# Altium schematic symbol library Atmel Microcontroller 8-Bit tinyAVR.SchLib: 200 symbols (part 4 of 7)
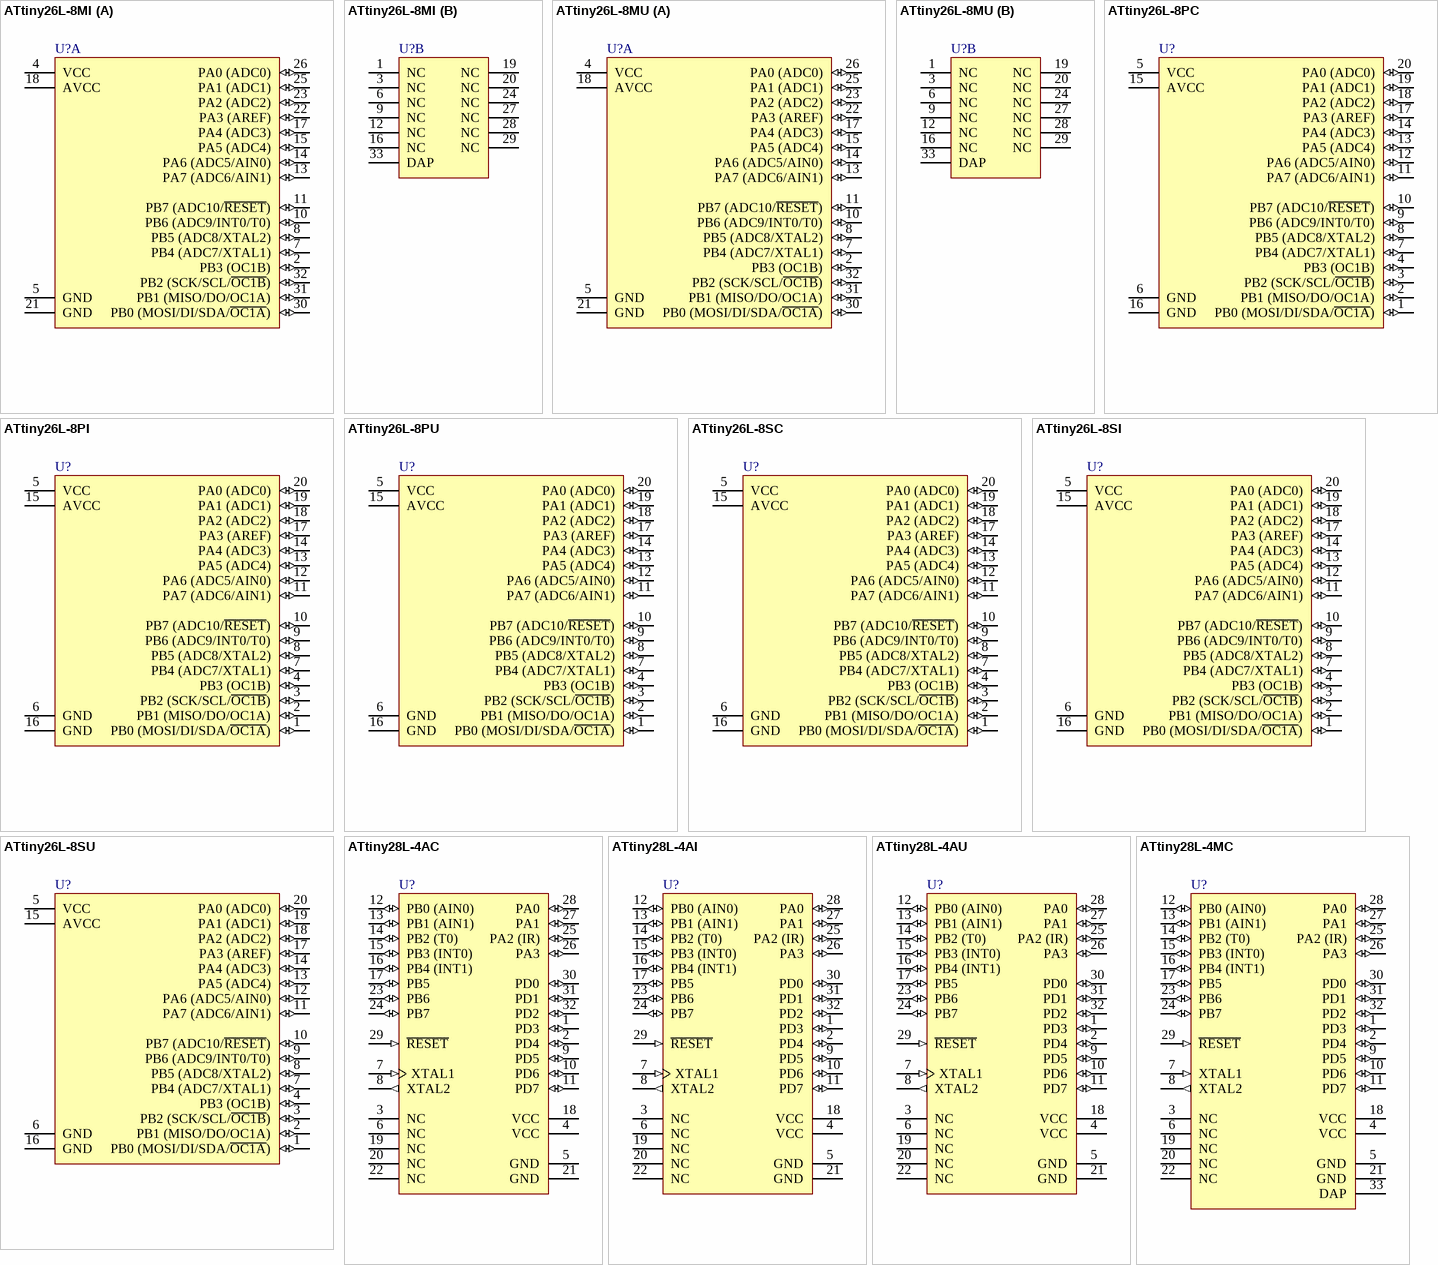
[diagram p16: symbols ATtiny26L-8MI to ATtiny28L-4MC]

## ATtiny26L-8PI
designator U?
8-bit AVR Microcontroller, 2.7-5.5V, 2KB Flash, 128 Bytes EEPROM, 128 Bytes SRAM, 20-pin PDIP, Industrial Grade (-40°C to 85°C); Published: 17-Sep-2003; DatasheetVersion: revJ, Jun-2007; PackageVersion: revC, Jan-2004; PackageReference: 20P3; Publisher: Altium Limited; PackageDescription: 20-lead (0.300"/7.62mm Wide) Plastic Dual Inline Package (PDIP); Supplier 1: Digi-Key; Supplier Part Number 1: ATTINY26L-8PI-ND; Supplier 2: Farnell; Supplier Part Number 2: 4376365; Supplier 3: Mouser; Supplier Part Number 3: 556-ATTINY26L-8PI; Code_JEDEC: MS-001-AD; ComponentLink1Description: Manufacturer Link; ComponentLink1URL: http://www.atmel.com/products/avr/default.asp?; ComponentLink2Description: ATtiny26(L) Datasheet; ComponentLink2URL: http://www.atmel.com/dyn/resources/prod_documents/doc1477.pdf; ComponentLink3Description: ATtiny26(L) Summary; ComponentLink3URL: http://www.atmel.com/dyn/resources/prod_documents/1477S.pdf; ComponentLink4Description: Atmel.com Home; ComponentLink4URL: http://www.atmel.com
footprint 20P3 (DIP, 20-Leads, Row Spacing 7.62mm, Pitch 2.54mm, Body 25.9x6.61mm)
pins: 1 PB0 (MOSI/DI/SDA/~{OC1A}) (io), 2 PB1 (MISO/DO/OC1A) (io), 3 PB2 (SCK/SCL/~{OC1B}) (io), 4 PB3 (OC1B) (io), 5 VCC (power), 6 GND (power), 7 PB4 (ADC7/XTAL1) (io), 8 PB5 (ADC8/XTAL2) (io), 9 PB6 (ADC9/INT0/T0) (io), 10 PB7 (ADC10/~{RESET}) (io), 11 PA7 (ADC6/AIN1) (io), 12 PA6 (ADC5/AIN0) (io), 13 PA5 (ADC4) (io), 14 PA4 (ADC3) (io), 15 AVCC (power), 16 GND (power), 17 PA3 (AREF) (io), 18 PA2 (ADC2) (io), 19 PA1 (ADC1) (io), 20 PA0 (ADC0) (io)

## ATtiny26L-8PU
designator U?
8-bit AVR Microcontroller, 2.7-5.5V, 2KB Flash, 128 Bytes EEPROM, 128 Bytes SRAM, 20-pin PDIP, Industrial Grade (-40°C to 85°C), Pb-Free; Published: 1-Apr-2010; DatasheetVersion: revJ, Jun-2007; PackageVersion: revC, Jan-2004; PackageReference: 20P3; Publisher: Altium Limited; PackageDescription: 20-lead (0.300"/7.62mm Wide) Plastic Dual Inline Package (PDIP); Supplier 1: Digi-Key; Supplier Part Number 1: ATTINY26L-8PU-ND; Supplier 2: Farnell; Supplier Part Number 2: 9171657; Supplier 3: Mouser; Supplier Part Number 3: 556-ATTINY26L-8PU; Code_JEDEC: MS-001-AD; ComponentLink1Description: Manufacturer Link; ComponentLink1URL: http://www.atmel.com/products/avr/default.asp?; ComponentLink2Description: ATtiny26(L) Datasheet; ComponentLink2URL: http://www.atmel.com/dyn/resources/prod_documents/doc1477.pdf; ComponentLink3Description: ATtiny26(L) Summary; ComponentLink3URL: http://www.atmel.com/dyn/resources/prod_documents/1477S.pdf; ComponentLink4Description: Atmel.com Home; ComponentLink4URL: http://www.atmel.com
footprint 20P3 (DIP, 20-Leads, Row Spacing 7.62mm, Pitch 2.54mm, Body 25.9x6.61mm)
pins: 1 PB0 (MOSI/DI/SDA/~{OC1A}) (io), 2 PB1 (MISO/DO/OC1A) (io), 3 PB2 (SCK/SCL/~{OC1B}) (io), 4 PB3 (OC1B) (io), 5 VCC (power), 6 GND (power), 7 PB4 (ADC7/XTAL1) (io), 8 PB5 (ADC8/XTAL2) (io), 9 PB6 (ADC9/INT0/T0) (io), 10 PB7 (ADC10/~{RESET}) (io), 11 PA7 (ADC6/AIN1) (io), 12 PA6 (ADC5/AIN0) (io), 13 PA5 (ADC4) (io), 14 PA4 (ADC3) (io), 15 AVCC (power), 16 GND (power), 17 PA3 (AREF) (io), 18 PA2 (ADC2) (io), 19 PA1 (ADC1) (io), 20 PA0 (ADC0) (io)

## ATtiny26L-8SC
designator U?
8-bit AVR Microcontroller, 2.7-5.5V, 2KB Flash, 128 Bytes EEPROM, 128 Bytes SRAM, 20-pin SOIC, Commercial Grade (0°C to 70°C); Published: 17-Sep-2003; DatasheetVersion: revJ, Jun-2007; PackageVersion: revB, Nov-2006; PackageReference: 20S2; Publisher: Altium Limited; PackageDescription: 20-lead, 0.300" Wide Body, Plastic Gull Wing Small Outline Package (SOIC); Supplier 1: Digi-Key; Supplier Part Number 1: ATTINY26L-8SC-ND; Supplier 2: Mouser; Supplier Part Number 2: 556-ATTINY26L-8SC; Code_JEDEC: MS-013-AC; Code_IPC: SOIC127P1030-20; ComponentLink1Description: Manufacturer Link; ComponentLink1URL: http://www.atmel.com/products/avr/default.asp?; ComponentLink2Description: ATtiny26(L) Datasheet; ComponentLink2URL: http://www.atmel.com/dyn/resources/prod_documents/doc1477.pdf; ComponentLink3Description: ATtiny26(L) Summary; ComponentLink3URL: http://www.atmel.com/dyn/resources/prod_documents/1477S.pdf; ComponentLink4Description: Atmel.com Home; ComponentLink4URL: http://www.atmel.com
footprint 20S2_N (SOIC, 20-Leads, Body 12.8x7.5mm, Pitch 1.27mm, IPC Medium Density)
footprint 20S2_L (SOIC, 20-Leads, Body 12.8x7.5mm, Pitch 1.27mm, IPC High Density)
footprint 20S2_M (SOIC, 20-Leads, Body 12.8x7.5mm, Pitch 1.27mm, IPC Low Density)
pins: 1 PB0 (MOSI/DI/SDA/~{OC1A}) (io), 2 PB1 (MISO/DO/OC1A) (io), 3 PB2 (SCK/SCL/~{OC1B}) (io), 4 PB3 (OC1B) (io), 5 VCC (power), 6 GND (power), 7 PB4 (ADC7/XTAL1) (io), 8 PB5 (ADC8/XTAL2) (io), 9 PB6 (ADC9/INT0/T0) (io), 10 PB7 (ADC10/~{RESET}) (io), 11 PA7 (ADC6/AIN1) (io), 12 PA6 (ADC5/AIN0) (io), 13 PA5 (ADC4) (io), 14 PA4 (ADC3) (io), 15 AVCC (power), 16 GND (power), 17 PA3 (AREF) (io), 18 PA2 (ADC2) (io), 19 PA1 (ADC1) (io), 20 PA0 (ADC0) (io)

## ATtiny26L-8SI
designator U?
8-bit AVR Microcontroller, 2.7-5.5V, 2KB Flash, 128 Bytes EEPROM, 128 Bytes SRAM, 20-pin SOIC, Industrial Grade (-40°C to 85°C); Published: 17-Sep-2003; DatasheetVersion: revJ, Jun-2007; PackageVersion: revB, Nov-2006; PackageReference: 20S2; Publisher: Altium Limited; PackageDescription: 20-lead, 0.300" Wide Body, Plastic Gull Wing Small Outline Package (SOIC); Supplier 1: Digi-Key; Supplier Part Number 1: ATTINY26L-8SI-ND; Supplier 2: Mouser; Supplier Part Number 2: 556-ATTINY26L-8SI; Code_JEDEC: MS-013-AC; Code_IPC: SOIC127P1030-20; ComponentLink1Description: Manufacturer Link; ComponentLink1URL: http://www.atmel.com/products/avr/default.asp?; ComponentLink2Description: ATtiny26(L) Datasheet; ComponentLink2URL: http://www.atmel.com/dyn/resources/prod_documents/doc1477.pdf; ComponentLink3Description: ATtiny26(L) Summary; ComponentLink3URL: http://www.atmel.com/dyn/resources/prod_documents/1477S.pdf; ComponentLink4Description: Atmel.com Home; ComponentLink4URL: http://www.atmel.com
footprint 20S2_N (SOIC, 20-Leads, Body 12.8x7.5mm, Pitch 1.27mm, IPC Medium Density)
footprint 20S2_L (SOIC, 20-Leads, Body 12.8x7.5mm, Pitch 1.27mm, IPC High Density)
footprint 20S2_M (SOIC, 20-Leads, Body 12.8x7.5mm, Pitch 1.27mm, IPC Low Density)
pins: 1 PB0 (MOSI/DI/SDA/~{OC1A}) (io), 2 PB1 (MISO/DO/OC1A) (io), 3 PB2 (SCK/SCL/~{OC1B}) (io), 4 PB3 (OC1B) (io), 5 VCC (power), 6 GND (power), 7 PB4 (ADC7/XTAL1) (io), 8 PB5 (ADC8/XTAL2) (io), 9 PB6 (ADC9/INT0/T0) (io), 10 PB7 (ADC10/~{RESET}) (io), 11 PA7 (ADC6/AIN1) (io), 12 PA6 (ADC5/AIN0) (io), 13 PA5 (ADC4) (io), 14 PA4 (ADC3) (io), 15 AVCC (power), 16 GND (power), 17 PA3 (AREF) (io), 18 PA2 (ADC2) (io), 19 PA1 (ADC1) (io), 20 PA0 (ADC0) (io)

## ATtiny26L-8SU
designator U?
8-bit AVR Microcontroller, 2.7-5.5V, 2KB Flash, 128 Bytes EEPROM, 128 Bytes SRAM, 20-pin SOIC, Industrial Grade (-40°C to 85°C), Pb-Free; Published: 1-Apr-2010; DatasheetVersion: revJ, Jun-2007; PackageVersion: revB, Nov-2006; PackageReference: 20S2; Publisher: Altium Limited; PackageDescription: 20-lead, 0.300" Wide Body, Plastic Gull Wing Small Outline Package (SOIC); Supplier 1: Digi-Key; Supplier Part Number 1: ATTINY26L-8SU-ND; Supplier 2: Farnell; Supplier Part Number 2: 9171665; Supplier 3: Mouser; Supplier Part Number 3: 556-ATTINY26L-8SU; Code_JEDEC: MS-013-AC; Code_IPC: SOIC127P1030-20; ComponentLink1Description: Manufacturer Link; ComponentLink1URL: http://www.atmel.com/products/avr/default.asp?; ComponentLink2Description: ATtiny26(L) Datasheet; ComponentLink2URL: http://www.atmel.com/dyn/resources/prod_documents/doc1477.pdf; ComponentLink3Description: ATtiny26(L) Summary; ComponentLink3URL: http://www.atmel.com/dyn/resources/prod_documents/1477S.pdf; ComponentLink4Description: Atmel.com Home; ComponentLink4URL: http://www.atmel.com
footprint 20S2_N (SOIC, 20-Leads, Body 12.8x7.5mm, Pitch 1.27mm, IPC Medium Density)
footprint 20S2_L (SOIC, 20-Leads, Body 12.8x7.5mm, Pitch 1.27mm, IPC High Density)
footprint 20S2_M (SOIC, 20-Leads, Body 12.8x7.5mm, Pitch 1.27mm, IPC Low Density)
pins: 1 PB0 (MOSI/DI/SDA/~{OC1A}) (io), 2 PB1 (MISO/DO/OC1A) (io), 3 PB2 (SCK/SCL/~{OC1B}) (io), 4 PB3 (OC1B) (io), 5 VCC (power), 6 GND (power), 7 PB4 (ADC7/XTAL1) (io), 8 PB5 (ADC8/XTAL2) (io), 9 PB6 (ADC9/INT0/T0) (io), 10 PB7 (ADC10/~{RESET}) (io), 11 PA7 (ADC6/AIN1) (io), 12 PA6 (ADC5/AIN0) (io), 13 PA5 (ADC4) (io), 14 PA4 (ADC3) (io), 15 AVCC (power), 16 GND (power), 17 PA3 (AREF) (io), 18 PA2 (ADC2) (io), 19 PA1 (ADC1) (io), 20 PA0 (ADC0) (io)

## ATtiny28L-4AC
designator U?
8-bit AVR Microcontroller, 2.7-5.5V, 2KB Flash, 11 GPIO pins, 32-pin TQFP, Commercial Grade (0°C to 70°C); Published: 17-Sep-2003; DatasheetVersion: revF, Jul-2006; PackageVersion: revB, Oct-2001; PackageReference: 32A; Publisher: Altium Limited; PackageDescription: 32-Lead, 7x7x1.0 mm Body, 0.8mm Lead Pitch, Thin Profile Plastic Quad Flat Package (TQFP); Supplier 1: Digi-Key; Supplier Part Number 1: ATTINY28L-4AC-ND; Supplier 2: Mouser; Supplier Part Number 2: 556-ATTINY28L-4AC; Code_JEDEC: MS-026-ABA; ComponentLink1Description: Manufacturer Link; ComponentLink1URL: http://www.atmel.com/products/avr/default.asp?; ComponentLink2Description: ATtiny28L/V Datasheet; ComponentLink2URL: http://www.atmel.com/dyn/resources/prod_documents/doc1062.pdf; ComponentLink3Description: ATtiny28L/V Summary; ComponentLink3URL: http://www.atmel.com/dyn/resources/prod_documents/1062S.pdf; ComponentLink4Description: Atmel.com Home; ComponentLink4URL: http://www.atmel.com
footprint 32A_N (Thin QFP, 32-Leads, Body 7x7mm, Pitch 0.8mm, IPC Medium Density)
footprint 32A_L (Thin QFP, 32-Leads, Body 7x7mm, Pitch 0.8mm, IPC High Density)
footprint 32A_M (Thin QFP, 32-Leads, Body 7x7mm, Pitch 0.8mm, IPC Low Density)
pins: 1 PD3 (io), 2 PD4 (io), 3 NC, 4 VCC (power), 5 GND (power), 6 NC, 7 XTAL1 (in), 8 XTAL2 (out), 9 PD5 (io), 10 PD6 (io), 11 PD7 (io), 12 PB0 (AIN0) (io), 13 PB1 (AIN1) (io), 14 PB2 (T0) (io), 15 PB3 (INT0) (io), 16 PB4 (INT1) (io), 17 PB5 (io), 18 VCC (power), 19 NC, 20 NC, 21 GND (power), 22 NC, 23 PB6 (io), 24 PB7 (io), 25 PA2 (IR) (io), 26 PA3 (io), 27 PA1 (io), 28 PA0 (io), 29 ~{RESET} (in), 30 PD0 (io), 31 PD1 (io), 32 PD2 (io)

## ATtiny28L-4AI
designator U?
8-bit AVR Microcontroller, 2.7-5.5V, 2KB Flash, 11 GPIO pins, 32-pin TQFP, Industrial Grade (-40°C to 85°C); Published: 17-Sep-2003; DatasheetVersion: revF, Jul-2006; PackageVersion: revB, Oct-2001; PackageReference: 32A; Publisher: Altium Limited; PackageDescription: 32-Lead, 7x7x1.0 mm Body, 0.8mm Lead Pitch, Thin Profile Plastic Quad Flat Package (TQFP); Supplier 1: Digi-Key; Supplier Part Number 1: ATTINY28L-4AI-ND; Supplier 2: Mouser; Supplier Part Number 2: 556-ATTINY28L-4AI; Code_JEDEC: MS-026-ABA; ComponentLink1Description: Manufacturer Link; ComponentLink1URL: http://www.atmel.com/products/avr/default.asp?; ComponentLink2Description: ATtiny28L/V Datasheet; ComponentLink2URL: http://www.atmel.com/dyn/resources/prod_documents/doc1062.pdf; ComponentLink3Description: ATtiny28L/V Summary; ComponentLink3URL: http://www.atmel.com/dyn/resources/prod_documents/1062S.pdf; ComponentLink4Description: Atmel.com Home; ComponentLink4URL: http://www.atmel.com
footprint 32A_N (Thin QFP, 32-Leads, Body 7x7mm, Pitch 0.8mm, IPC Medium Density)
footprint 32A_L (Thin QFP, 32-Leads, Body 7x7mm, Pitch 0.8mm, IPC High Density)
footprint 32A_M (Thin QFP, 32-Leads, Body 7x7mm, Pitch 0.8mm, IPC Low Density)
pins: 1 PD3 (io), 2 PD4 (io), 3 NC, 4 VCC (power), 5 GND (power), 6 NC, 7 XTAL1 (in), 8 XTAL2 (out), 9 PD5 (io), 10 PD6 (io), 11 PD7 (io), 12 PB0 (AIN0) (io), 13 PB1 (AIN1) (io), 14 PB2 (T0) (io), 15 PB3 (INT0) (io), 16 PB4 (INT1) (io), 17 PB5 (io), 18 VCC (power), 19 NC, 20 NC, 21 GND (power), 22 NC, 23 PB6 (io), 24 PB7 (io), 25 PA2 (IR) (io), 26 PA3 (io), 27 PA1 (io), 28 PA0 (io), 29 ~{RESET} (in), 30 PD0 (io), 31 PD1 (io), 32 PD2 (io)

## ATtiny28L-4AU
designator U?
8-bit AVR Microcontroller, 2.7-5.5V, 2KB Flash, 11 GPIO pins, 32-pin TQFP, Industrial Grade (-40°C to 85°C), Pb-Free; Published: 1-Apr-2010; DatasheetVersion: revF, Jul-2006; PackageVersion: revB, Oct-2001; PackageReference: 32A; Publisher: Altium Limited; PackageDescription: 32-Lead, 7x7x1.0 mm Body, 0.8mm Lead Pitch, Thin Profile Plastic Quad Flat Package (TQFP); Supplier 1: Digi-Key; Supplier Part Number 1: ATTINY28L-4AU-ND; Supplier 2: Mouser; Supplier Part Number 2: 556-ATTINY28L-4AU; Code_JEDEC: MS-026-ABA; ComponentLink1Description: Manufacturer Link; ComponentLink1URL: http://www.atmel.com/products/avr/default.asp?; ComponentLink2Description: ATtiny28L/V Datasheet; ComponentLink2URL: http://www.atmel.com/dyn/resources/prod_documents/doc1062.pdf; ComponentLink3Description: ATtiny28L/V Summary; ComponentLink3URL: http://www.atmel.com/dyn/resources/prod_documents/1062S.pdf; ComponentLink4Description: Atmel.com Home; ComponentLink4URL: http://www.atmel.com
footprint 32A_N (Thin QFP, 32-Leads, Body 7x7mm, Pitch 0.8mm, IPC Medium Density)
footprint 32A_L (Thin QFP, 32-Leads, Body 7x7mm, Pitch 0.8mm, IPC High Density)
footprint 32A_M (Thin QFP, 32-Leads, Body 7x7mm, Pitch 0.8mm, IPC Low Density)
pins: 1 PD3 (io), 2 PD4 (io), 3 NC, 4 VCC (power), 5 GND (power), 6 NC, 7 XTAL1 (in), 8 XTAL2 (out), 9 PD5 (io), 10 PD6 (io), 11 PD7 (io), 12 PB0 (AIN0) (io), 13 PB1 (AIN1) (io), 14 PB2 (T0) (io), 15 PB3 (INT0) (io), 16 PB4 (INT1) (io), 17 PB5 (io), 18 VCC (power), 19 NC, 20 NC, 21 GND (power), 22 NC, 23 PB6 (io), 24 PB7 (io), 25 PA2 (IR) (io), 26 PA3 (io), 27 PA1 (io), 28 PA0 (io), 29 ~{RESET} (in), 30 PD0 (io), 31 PD1 (io), 32 PD2 (io)

## ATtiny28L-4MC
designator U?
8-bit AVR Microcontroller, 2.7-5.5V, 2KB Flash, 11 GPIO pins, 32-pin MLF, Commercial Grade (0°C to 70°C); Published: 26-May-2004; DatasheetVersion: revF, Jul-2006; PackageVersion: revE, May-2006; PackageReference: 32M1-A; Publisher: Altium Limited; PackageDescription: 32-Pin Micro Lead Frame Package (MLF),  5 x 5 x 1.0 mm Body, Pitch 0.50 mm, 3.10mm Exposed Pad; Supplier 1: Digi-Key; Supplier Part Number 1: ATTINY28L-4MC-ND; Supplier 2: Mouser; Supplier Part Number 2: 556-ATTINY28L-4MC; Code_JEDEC: MO-220-VHHD-2; ComponentLink1Description: Manufacturer Link; ComponentLink1URL: http://www.atmel.com/products/avr/default.asp?; ComponentLink2Description: ATtiny28L/V Datasheet; ComponentLink2URL: http://www.atmel.com/dyn/resources/prod_documents/doc1062.pdf; ComponentLink3Description: ATtiny28L/V Summary; ComponentLink3URL: http://www.atmel.com/dyn/resources/prod_documents/1062S.pdf; ComponentLink4Description: Atmel.com Home; ComponentLink4URL: http://www.atmel.com
footprint 32M1-A_N (QFN, 32-Leads, Body 5x5mm, Pitch 0.5mm, IPC Medium Density)
footprint 32M1-A_L (QFN, 32-Leads, Body 5x5mm, Pitch 0.5mm, IPC High Density)
footprint 32M1-A_M (QFN, 32-Leads, Body 5x5mm, Pitch 0.5mm, IPC Low Density)
pins: 1 PD3 (io), 2 PD4 (io), 3 NC, 4 VCC (power), 5 GND (power), 6 NC, 7 XTAL1 (in), 8 XTAL2 (out), 9 PD5 (io), 10 PD6 (io), 11 PD7 (io), 12 PB0 (AIN0) (io), 13 PB1 (AIN1) (io), 14 PB2 (T0) (io), 15 PB3 (INT0) (io), 16 PB4 (INT1) (io), 17 PB5 (io), 18 VCC (power), 19 NC, 20 NC, 21 GND (power), 22 NC, 23 PB6 (io), 24 PB7 (io), 25 PA2 (IR) (io), 26 PA3 (io), 27 PA1 (io), 28 PA0 (io), 29 ~{RESET} (in), 30 PD0 (io), 31 PD1 (io), 32 PD2 (io), 33 DAP (power)

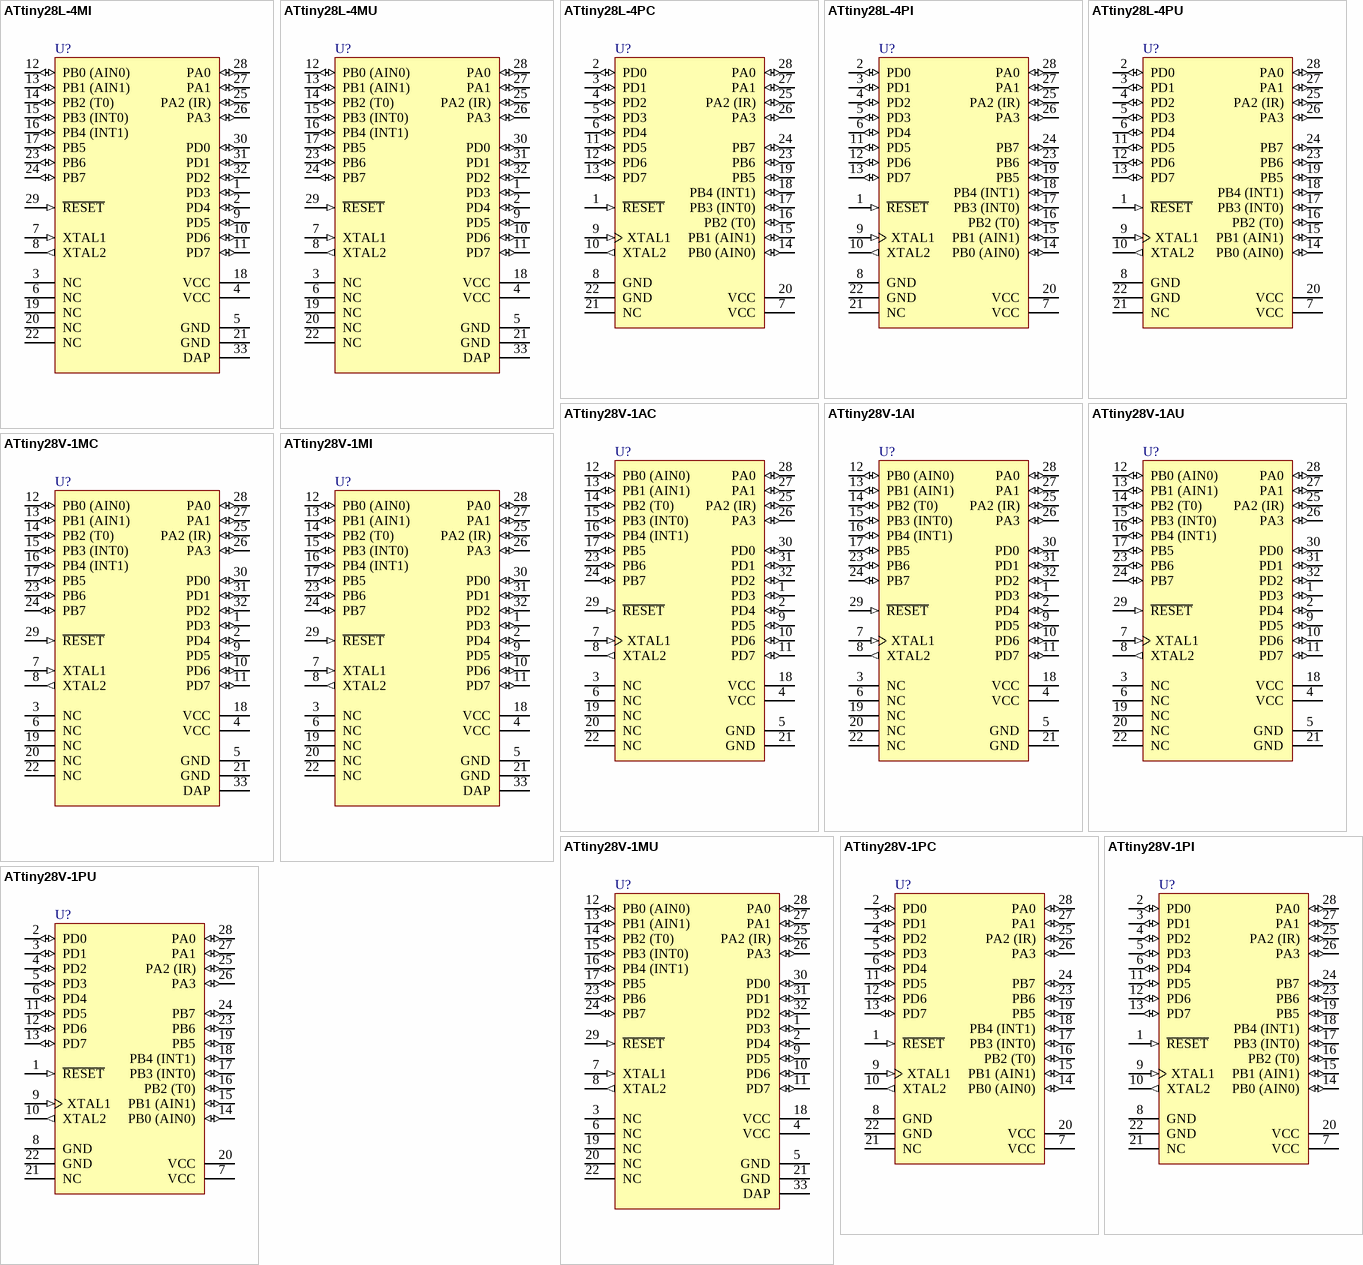
[diagram p6: symbols ATtiny28L-4MI to ATtiny28V-1PU]

## ATtiny28L-4MI
designator U?
8-bit AVR Microcontroller, 2.7-5.5V, 2KB Flash, 11 GPIO pins, 32-pin MLF, Industrial Grade (-40°C to 85°C); Published: 26-May-2004; DatasheetVersion: revF, Jul-2006; PackageVersion: revE, May-2006; PackageReference: 32M1-A; Publisher: Altium Limited; PackageDescription: 32-Pin Micro Lead Frame Package (MLF),  5 x 5 x 1.0 mm Body, Pitch 0.50 mm, 3.10mm Exposed Pad; Supplier 1: Digi-Key; Supplier Part Number 1: ATTINY28L-4MI-ND; Supplier 2: Mouser; Supplier Part Number 2: 556-ATTINY28L-4MI; Code_JEDEC: MO-220-VHHD-2; ComponentLink1Description: Manufacturer Link; ComponentLink1URL: http://www.atmel.com/products/avr/default.asp?; ComponentLink2Description: ATtiny28L/V Datasheet; ComponentLink2URL: http://www.atmel.com/dyn/resources/prod_documents/doc1062.pdf; ComponentLink3Description: ATtiny28L/V Summary; ComponentLink3URL: http://www.atmel.com/dyn/resources/prod_documents/1062S.pdf; ComponentLink4Description: Atmel.com Home; ComponentLink4URL: http://www.atmel.com
footprint 32M1-A_N (QFN, 32-Leads, Body 5x5mm, Pitch 0.5mm, IPC Medium Density)
footprint 32M1-A_L (QFN, 32-Leads, Body 5x5mm, Pitch 0.5mm, IPC High Density)
footprint 32M1-A_M (QFN, 32-Leads, Body 5x5mm, Pitch 0.5mm, IPC Low Density)
pins: 1 PD3 (io), 2 PD4 (io), 3 NC, 4 VCC (power), 5 GND (power), 6 NC, 7 XTAL1 (in), 8 XTAL2 (out), 9 PD5 (io), 10 PD6 (io), 11 PD7 (io), 12 PB0 (AIN0) (io), 13 PB1 (AIN1) (io), 14 PB2 (T0) (io), 15 PB3 (INT0) (io), 16 PB4 (INT1) (io), 17 PB5 (io), 18 VCC (power), 19 NC, 20 NC, 21 GND (power), 22 NC, 23 PB6 (io), 24 PB7 (io), 25 PA2 (IR) (io), 26 PA3 (io), 27 PA1 (io), 28 PA0 (io), 29 ~{RESET} (in), 30 PD0 (io), 31 PD1 (io), 32 PD2 (io), 33 DAP (power)

## ATtiny28L-4MU
designator U?
8-bit AVR Microcontroller, 2.7-5.5V, 2KB Flash, 11 GPIO pins, 32-pin MLF, Industrial Grade (-40°C to 85°C), Pb-Free; Published: 1-Apr-2010; DatasheetVersion: revF, Jul-2006; PackageVersion: revE, May-2006; PackageReference: 32M1-A; Publisher: Altium Limited; PackageDescription: 32-Pin Micro Lead Frame Package (MLF),  5 x 5 x 1.0 mm Body, Pitch 0.50 mm, 3.10mm Exposed Pad; Supplier 1: Digi-Key; Supplier Part Number 1: ATTINY28L-4MU-ND; Supplier 2: Mouser; Supplier Part Number 2: 556-ATTINY28L-4MU; Code_JEDEC: MO-220-VHHD-2; ComponentLink1Description: Manufacturer Link; ComponentLink1URL: http://www.atmel.com/products/avr/default.asp?; ComponentLink2Description: ATtiny28L/V Datasheet; ComponentLink2URL: http://www.atmel.com/dyn/resources/prod_documents/doc1062.pdf; ComponentLink3Description: ATtiny28L/V Summary; ComponentLink3URL: http://www.atmel.com/dyn/resources/prod_documents/1062S.pdf; ComponentLink4Description: Atmel.com Home; ComponentLink4URL: http://www.atmel.com
footprint 32M1-A_N (QFN, 32-Leads, Body 5x5mm, Pitch 0.5mm, IPC Medium Density)
footprint 32M1-A_L (QFN, 32-Leads, Body 5x5mm, Pitch 0.5mm, IPC High Density)
footprint 32M1-A_M (QFN, 32-Leads, Body 5x5mm, Pitch 0.5mm, IPC Low Density)
pins: 1 PD3 (io), 2 PD4 (io), 3 NC, 4 VCC (power), 5 GND (power), 6 NC, 7 XTAL1 (in), 8 XTAL2 (out), 9 PD5 (io), 10 PD6 (io), 11 PD7 (io), 12 PB0 (AIN0) (io), 13 PB1 (AIN1) (io), 14 PB2 (T0) (io), 15 PB3 (INT0) (io), 16 PB4 (INT1) (io), 17 PB5 (io), 18 VCC (power), 19 NC, 20 NC, 21 GND (power), 22 NC, 23 PB6 (io), 24 PB7 (io), 25 PA2 (IR) (io), 26 PA3 (io), 27 PA1 (io), 28 PA0 (io), 29 ~{RESET} (in), 30 PD0 (io), 31 PD1 (io), 32 PD2 (io), 33 DAP (power)

## ATtiny28L-4PC
designator U?
8-bit AVR Microcontroller, 2.7-5.5V, 2KB Flash, 11 GPIO pins, 28-pin PDIP, Commercial Grade (0°C to 70°C); Published: 17-Sep-2003; DatasheetVersion: revF, Jul-2006; PackageVersion: revB, Sep-2001; PackageReference: 28P3; Publisher: Altium Limited; PackageDescription: 28-lead (0.300"/7.62mm Wide) Plastic Dual Inline Package (PDIP); Supplier 1: Digi-Key; Supplier Part Number 1: ATTINY28L-4PC-ND; Supplier 2: Mouser; Supplier Part Number 2: 556-ATTINY28L4PC; ComponentLink1Description: Manufacturer Link; ComponentLink1URL: http://www.atmel.com/products/avr/default.asp?; ComponentLink2Description: ATtiny28L/V Datasheet; ComponentLink2URL: http://www.atmel.com/dyn/resources/prod_documents/doc1062.pdf; ComponentLink3Description: ATtiny28L/V Summary; ComponentLink3URL: http://www.atmel.com/dyn/resources/prod_documents/1062S.pdf; ComponentLink4Description: Atmel.com Home; ComponentLink4URL: http://www.atmel.com
footprint 28P3 (DIP, 28-Leads, Row Spacing 7.62mm, Pitch 2.54mm, Body 34.67x7.3mm)
pins: 1 ~{RESET} (in), 2 PD0 (io), 3 PD1 (io), 4 PD2 (io), 5 PD3 (io), 6 PD4 (io), 7 VCC (power), 8 GND (power), 9 XTAL1 (in), 10 XTAL2 (out), 11 PD5 (io), 12 PD6 (io), 13 PD7 (io), 14 PB0 (AIN0) (io), 15 PB1 (AIN1) (io), 16 PB2 (T0) (io), 17 PB3 (INT0) (io), 18 PB4 (INT1) (io), 19 PB5 (io), 20 VCC (power), 21 NC, 22 GND (power), 23 PB6 (io), 24 PB7 (io), 25 PA2 (IR) (io), 26 PA3 (io), 27 PA1 (io), 28 PA0 (io)

## ATtiny28L-4PI
designator U?
8-bit AVR Microcontroller, 2.7-5.5V, 2KB Flash, 11 GPIO pins, 28-pin PDIP, Industrial Grade (-40°C to 85°C); Published: 17-Sep-2003; DatasheetVersion: revF, Jul-2006; PackageVersion: revB, Sep-2001; PackageReference: 28P3; Publisher: Altium Limited; PackageDescription: 28-lead (0.300"/7.62mm Wide) Plastic Dual Inline Package (PDIP); Supplier 1: Digi-Key; Supplier Part Number 1: ATTINY28L-4PI-ND; Supplier 2: Mouser; Supplier Part Number 2: 556-ATTINY28L-4PI; ComponentLink1Description: Manufacturer Link; ComponentLink1URL: http://www.atmel.com/products/avr/default.asp?; ComponentLink2Description: ATtiny28L/V Datasheet; ComponentLink2URL: http://www.atmel.com/dyn/resources/prod_documents/doc1062.pdf; ComponentLink3Description: ATtiny28L/V Summary; ComponentLink3URL: http://www.atmel.com/dyn/resources/prod_documents/1062S.pdf; ComponentLink4Description: Atmel.com Home; ComponentLink4URL: http://www.atmel.com
footprint 28P3 (DIP, 28-Leads, Row Spacing 7.62mm, Pitch 2.54mm, Body 34.67x7.3mm)
pins: 1 ~{RESET} (in), 2 PD0 (io), 3 PD1 (io), 4 PD2 (io), 5 PD3 (io), 6 PD4 (io), 7 VCC (power), 8 GND (power), 9 XTAL1 (in), 10 XTAL2 (out), 11 PD5 (io), 12 PD6 (io), 13 PD7 (io), 14 PB0 (AIN0) (io), 15 PB1 (AIN1) (io), 16 PB2 (T0) (io), 17 PB3 (INT0) (io), 18 PB4 (INT1) (io), 19 PB5 (io), 20 VCC (power), 21 NC, 22 GND (power), 23 PB6 (io), 24 PB7 (io), 25 PA2 (IR) (io), 26 PA3 (io), 27 PA1 (io), 28 PA0 (io)

## ATtiny28L-4PU
designator U?
8-bit AVR Microcontroller, 2.7-5.5V, 2KB Flash, 11 GPIO pins, 28-pin PDIP, Industrial Grade (-40°C to 85°C), Pb-Free; Published: 1-Apr-2010; DatasheetVersion: revF, Jul-2006; PackageVersion: revB, Sep-2001; PackageReference: 28P3; Publisher: Altium Limited; PackageDescription: 28-lead (0.300"/7.62mm Wide) Plastic Dual Inline Package (PDIP); Supplier 1: Digi-Key; Supplier Part Number 1: ATTINY28L-4PU-ND; Supplier 2: Mouser; Supplier Part Number 2: 556-ATTINY28L-4PU; ComponentLink1Description: Manufacturer Link; ComponentLink1URL: http://www.atmel.com/products/avr/default.asp?; ComponentLink2Description: ATtiny28L/V Datasheet; ComponentLink2URL: http://www.atmel.com/dyn/resources/prod_documents/doc1062.pdf; ComponentLink3Description: ATtiny28L/V Summary; ComponentLink3URL: http://www.atmel.com/dyn/resources/prod_documents/1062S.pdf; ComponentLink4Description: Atmel.com Home; ComponentLink4URL: http://www.atmel.com
footprint 28P3 (DIP, 28-Leads, Row Spacing 7.62mm, Pitch 2.54mm, Body 34.67x7.3mm)
pins: 1 ~{RESET} (in), 2 PD0 (io), 3 PD1 (io), 4 PD2 (io), 5 PD3 (io), 6 PD4 (io), 7 VCC (power), 8 GND (power), 9 XTAL1 (in), 10 XTAL2 (out), 11 PD5 (io), 12 PD6 (io), 13 PD7 (io), 14 PB0 (AIN0) (io), 15 PB1 (AIN1) (io), 16 PB2 (T0) (io), 17 PB3 (INT0) (io), 18 PB4 (INT1) (io), 19 PB5 (io), 20 VCC (power), 21 NC, 22 GND (power), 23 PB6 (io), 24 PB7 (io), 25 PA2 (IR) (io), 26 PA3 (io), 27 PA1 (io), 28 PA0 (io)

## ATtiny28V-1AC
designator U?
8-bit AVR Microcontroller, 1.8-5.5V, 2KB Flash, 11 GPIO pins, 32-pin TQFP, Commercial Grade (0°C to 70°C); Published: 17-Sep-2003; DatasheetVersion: revF, Jul-2006; PackageVersion: revB, Oct-2001; PackageReference: 32A; Publisher: Altium Limited; PackageDescription: 32-Lead, 7x7x1.0 mm Body, 0.8mm Lead Pitch, Thin Profile Plastic Quad Flat Package (TQFP); Supplier 1: Digi-Key; Supplier Part Number 1: ATTINY28V-1AC-ND; Supplier 2: Mouser; Supplier Part Number 2: 556-ATTINY28V-1AC; Code_JEDEC: MS-026-ABA; ComponentLink1Description: Manufacturer Link; ComponentLink1URL: http://www.atmel.com/products/avr/default.asp?; ComponentLink2Description: ATtiny28L/V Datasheet; ComponentLink2URL: http://www.atmel.com/dyn/resources/prod_documents/doc1062.pdf; ComponentLink3Description: ATtiny28L/V Summary; ComponentLink3URL: http://www.atmel.com/dyn/resources/prod_documents/1062S.pdf; ComponentLink4Description: Atmel.com Home; ComponentLink4URL: http://www.atmel.com
footprint 32A_N (Thin QFP, 32-Leads, Body 7x7mm, Pitch 0.8mm, IPC Medium Density)
footprint 32A_L (Thin QFP, 32-Leads, Body 7x7mm, Pitch 0.8mm, IPC High Density)
footprint 32A_M (Thin QFP, 32-Leads, Body 7x7mm, Pitch 0.8mm, IPC Low Density)
pins: 1 PD3 (io), 2 PD4 (io), 3 NC, 4 VCC (power), 5 GND (power), 6 NC, 7 XTAL1 (in), 8 XTAL2 (out), 9 PD5 (io), 10 PD6 (io), 11 PD7 (io), 12 PB0 (AIN0) (io), 13 PB1 (AIN1) (io), 14 PB2 (T0) (io), 15 PB3 (INT0) (io), 16 PB4 (INT1) (io), 17 PB5 (io), 18 VCC (power), 19 NC, 20 NC, 21 GND (power), 22 NC, 23 PB6 (io), 24 PB7 (io), 25 PA2 (IR) (io), 26 PA3 (io), 27 PA1 (io), 28 PA0 (io), 29 ~{RESET} (in), 30 PD0 (io), 31 PD1 (io), 32 PD2 (io)

## ATtiny28V-1AI
designator U?
8-bit AVR Microcontroller, 1.8-5.5V, 2KB Flash, 11 GPIO pins, 32-pin TQFP, Industrial Grade (-40°C to 85°C); Published: 17-Sep-2003; DatasheetVersion: revF, Jul-2006; PackageVersion: revB, Oct-2001; PackageReference: 32A; Publisher: Altium Limited; PackageDescription: 32-Lead, 7x7x1.0 mm Body, 0.8mm Lead Pitch, Thin Profile Plastic Quad Flat Package (TQFP); Supplier 1: Digi-Key; Supplier Part Number 1: ATTINY28V-1AI-ND; Supplier 2: Farnell; Supplier Part Number 2: 4376377; Supplier 3: Mouser; Supplier Part Number 3: 556-ATTINY28V-1AI; Code_JEDEC: MS-026-ABA; ComponentLink1Description: Manufacturer Link; ComponentLink1URL: http://www.atmel.com/products/avr/default.asp?; ComponentLink2Description: ATtiny28L/V Datasheet; ComponentLink2URL: http://www.atmel.com/dyn/resources/prod_documents/doc1062.pdf; ComponentLink3Description: ATtiny28L/V Summary; ComponentLink3URL: http://www.atmel.com/dyn/resources/prod_documents/1062S.pdf; ComponentLink4Description: Atmel.com Home; ComponentLink4URL: http://www.atmel.com
footprint 32A_N (Thin QFP, 32-Leads, Body 7x7mm, Pitch 0.8mm, IPC Medium Density)
footprint 32A_L (Thin QFP, 32-Leads, Body 7x7mm, Pitch 0.8mm, IPC High Density)
footprint 32A_M (Thin QFP, 32-Leads, Body 7x7mm, Pitch 0.8mm, IPC Low Density)
pins: 1 PD3 (io), 2 PD4 (io), 3 NC, 4 VCC (power), 5 GND (power), 6 NC, 7 XTAL1 (in), 8 XTAL2 (out), 9 PD5 (io), 10 PD6 (io), 11 PD7 (io), 12 PB0 (AIN0) (io), 13 PB1 (AIN1) (io), 14 PB2 (T0) (io), 15 PB3 (INT0) (io), 16 PB4 (INT1) (io), 17 PB5 (io), 18 VCC (power), 19 NC, 20 NC, 21 GND (power), 22 NC, 23 PB6 (io), 24 PB7 (io), 25 PA2 (IR) (io), 26 PA3 (io), 27 PA1 (io), 28 PA0 (io), 29 ~{RESET} (in), 30 PD0 (io), 31 PD1 (io), 32 PD2 (io)

## ATtiny28V-1AU
designator U?
8-bit AVR Microcontroller, 1.8-5.5V, 2KB Flash, 11 GPIO pins, 32-pin TQFP, Industrial Grade (-40°C to 85°C), Pb-Free; Published: 1-Apr-2010; DatasheetVersion: revF, Jul-2006; PackageVersion: revB, Oct-2001; PackageReference: 32A; Publisher: Altium Limited; PackageDescription: 32-Lead, 7x7x1.0 mm Body, 0.8mm Lead Pitch, Thin Profile Plastic Quad Flat Package (TQFP); Supplier 1: Digi-Key; Supplier Part Number 1: ATTINY28V-1AU-ND; Supplier 2: Mouser; Supplier Part Number 2: 556-ATTINY28V-1AU; Code_JEDEC: MS-026-ABA; ComponentLink1Description: Manufacturer Link; ComponentLink1URL: http://www.atmel.com/products/avr/default.asp?; ComponentLink2Description: ATtiny28L/V Datasheet; ComponentLink2URL: http://www.atmel.com/dyn/resources/prod_documents/doc1062.pdf; ComponentLink3Description: ATtiny28L/V Summary; ComponentLink3URL: http://www.atmel.com/dyn/resources/prod_documents/1062S.pdf; ComponentLink4Description: Atmel.com Home; ComponentLink4URL: http://www.atmel.com
footprint 32A_N (Thin QFP, 32-Leads, Body 7x7mm, Pitch 0.8mm, IPC Medium Density)
footprint 32A_L (Thin QFP, 32-Leads, Body 7x7mm, Pitch 0.8mm, IPC High Density)
footprint 32A_M (Thin QFP, 32-Leads, Body 7x7mm, Pitch 0.8mm, IPC Low Density)
pins: 1 PD3 (io), 2 PD4 (io), 3 NC, 4 VCC (power), 5 GND (power), 6 NC, 7 XTAL1 (in), 8 XTAL2 (out), 9 PD5 (io), 10 PD6 (io), 11 PD7 (io), 12 PB0 (AIN0) (io), 13 PB1 (AIN1) (io), 14 PB2 (T0) (io), 15 PB3 (INT0) (io), 16 PB4 (INT1) (io), 17 PB5 (io), 18 VCC (power), 19 NC, 20 NC, 21 GND (power), 22 NC, 23 PB6 (io), 24 PB7 (io), 25 PA2 (IR) (io), 26 PA3 (io), 27 PA1 (io), 28 PA0 (io), 29 ~{RESET} (in), 30 PD0 (io), 31 PD1 (io), 32 PD2 (io)

## ATtiny28V-1MC
designator U?
8-bit AVR Microcontroller, 1.8-5.5V, 2KB Flash, 11 GPIO pins, 32-pin MLF, Commercial Grade (0°C to 70°C); Published: 26-May-2004; DatasheetVersion: revF, Jul-2006; PackageVersion: revE, May-2006; PackageReference: 32M1-A; Publisher: Altium Limited; PackageDescription: 32-Pin Micro Lead Frame Package (MLF),  5 x 5 x 1.0 mm Body, Pitch 0.50 mm, 3.10mm Exposed Pad; Supplier 1: Digi-Key; Supplier Part Number 1: ATTINY28V-1MC-ND; Supplier 2: Mouser; Supplier Part Number 2: 556-ATTINY28V-1MC; Code_JEDEC: MO-220-VHHD-2; ComponentLink1Description: Manufacturer Link; ComponentLink1URL: http://www.atmel.com/products/avr/default.asp?; ComponentLink2Description: ATtiny28L/V Datasheet; ComponentLink2URL: http://www.atmel.com/dyn/resources/prod_documents/doc1062.pdf; ComponentLink3Description: ATtiny28L/V Summary; ComponentLink3URL: http://www.atmel.com/dyn/resources/prod_documents/1062S.pdf; ComponentLink4Description: Atmel.com Home; ComponentLink4URL: http://www.atmel.com
footprint 32M1-A_N (QFN, 32-Leads, Body 5x5mm, Pitch 0.5mm, IPC Medium Density)
footprint 32M1-A_L (QFN, 32-Leads, Body 5x5mm, Pitch 0.5mm, IPC High Density)
footprint 32M1-A_M (QFN, 32-Leads, Body 5x5mm, Pitch 0.5mm, IPC Low Density)
pins: 1 PD3 (io), 2 PD4 (io), 3 NC, 4 VCC (power), 5 GND (power), 6 NC, 7 XTAL1 (in), 8 XTAL2 (out), 9 PD5 (io), 10 PD6 (io), 11 PD7 (io), 12 PB0 (AIN0) (io), 13 PB1 (AIN1) (io), 14 PB2 (T0) (io), 15 PB3 (INT0) (io), 16 PB4 (INT1) (io), 17 PB5 (io), 18 VCC (power), 19 NC, 20 NC, 21 GND (power), 22 NC, 23 PB6 (io), 24 PB7 (io), 25 PA2 (IR) (io), 26 PA3 (io), 27 PA1 (io), 28 PA0 (io), 29 ~{RESET} (in), 30 PD0 (io), 31 PD1 (io), 32 PD2 (io), 33 DAP (power)

## ATtiny28V-1MI
designator U?
8-bit AVR Microcontroller, 1.8-5.5V, 2KB Flash, 11 GPIO pins, 32-pin MLF, Industrial Grade (-40°C to 85°C); Published: 26-May-2004; DatasheetVersion: revF, Jul-2006; PackageVersion: revE, May-2006; PackageReference: 32M1-A; Publisher: Altium Limited; PackageDescription: 32-Pin Micro Lead Frame Package (MLF),  5 x 5 x 1.0 mm Body, Pitch 0.50 mm, 3.10mm Exposed Pad; Supplier 1: Digi-Key; Supplier Part Number 1: ATTINY28V-1MI-ND; Supplier 2: Mouser; Supplier Part Number 2: 556-ATTINY28V-1MI; Code_JEDEC: MO-220-VHHD-2; ComponentLink1Description: Manufacturer Link; ComponentLink1URL: http://www.atmel.com/products/avr/default.asp?; ComponentLink2Description: ATtiny28L/V Datasheet; ComponentLink2URL: http://www.atmel.com/dyn/resources/prod_documents/doc1062.pdf; ComponentLink3Description: ATtiny28L/V Summary; ComponentLink3URL: http://www.atmel.com/dyn/resources/prod_documents/1062S.pdf; ComponentLink4Description: Atmel.com Home; ComponentLink4URL: http://www.atmel.com
footprint 32M1-A_N (QFN, 32-Leads, Body 5x5mm, Pitch 0.5mm, IPC Medium Density)
footprint 32M1-A_L (QFN, 32-Leads, Body 5x5mm, Pitch 0.5mm, IPC High Density)
footprint 32M1-A_M (QFN, 32-Leads, Body 5x5mm, Pitch 0.5mm, IPC Low Density)
pins: 1 PD3 (io), 2 PD4 (io), 3 NC, 4 VCC (power), 5 GND (power), 6 NC, 7 XTAL1 (in), 8 XTAL2 (out), 9 PD5 (io), 10 PD6 (io), 11 PD7 (io), 12 PB0 (AIN0) (io), 13 PB1 (AIN1) (io), 14 PB2 (T0) (io), 15 PB3 (INT0) (io), 16 PB4 (INT1) (io), 17 PB5 (io), 18 VCC (power), 19 NC, 20 NC, 21 GND (power), 22 NC, 23 PB6 (io), 24 PB7 (io), 25 PA2 (IR) (io), 26 PA3 (io), 27 PA1 (io), 28 PA0 (io), 29 ~{RESET} (in), 30 PD0 (io), 31 PD1 (io), 32 PD2 (io), 33 DAP (power)

## ATtiny28V-1MU
designator U?
8-bit AVR Microcontroller, 1.8-5.5V, 2KB Flash, 11 GPIO pins, 32-pin MLF, Industrial Grade (-40°C to 85°C), Pb-Free; Published: 1-Apr-2010; DatasheetVersion: revF, Jul-2006; PackageVersion: revE, May-2006; PackageReference: 32M1-A; Publisher: Altium Limited; PackageDescription: 32-Pin Micro Lead Frame Package (MLF),  5 x 5 x 1.0 mm Body, Pitch 0.50 mm, 3.10mm Exposed Pad; Supplier 1: Digi-Key; Supplier Part Number 1: ATTINY28V-1MU-ND; Supplier 2: Mouser; Supplier Part Number 2: 556-ATTINY28V-1MU; Code_JEDEC: MO-220-VHHD-2; ComponentLink1Description: Manufacturer Link; ComponentLink1URL: http://www.atmel.com/products/avr/default.asp?; ComponentLink2Description: ATtiny28L/V Datasheet; ComponentLink2URL: http://www.atmel.com/dyn/resources/prod_documents/doc1062.pdf; ComponentLink3Description: ATtiny28L/V Summary; ComponentLink3URL: http://www.atmel.com/dyn/resources/prod_documents/1062S.pdf; ComponentLink4Description: Atmel.com Home; ComponentLink4URL: http://www.atmel.com
footprint 32M1-A_N (QFN, 32-Leads, Body 5x5mm, Pitch 0.5mm, IPC Medium Density)
footprint 32M1-A_L (QFN, 32-Leads, Body 5x5mm, Pitch 0.5mm, IPC High Density)
footprint 32M1-A_M (QFN, 32-Leads, Body 5x5mm, Pitch 0.5mm, IPC Low Density)
pins: 1 PD3 (io), 2 PD4 (io), 3 NC, 4 VCC (power), 5 GND (power), 6 NC, 7 XTAL1 (in), 8 XTAL2 (out), 9 PD5 (io), 10 PD6 (io), 11 PD7 (io), 12 PB0 (AIN0) (io), 13 PB1 (AIN1) (io), 14 PB2 (T0) (io), 15 PB3 (INT0) (io), 16 PB4 (INT1) (io), 17 PB5 (io), 18 VCC (power), 19 NC, 20 NC, 21 GND (power), 22 NC, 23 PB6 (io), 24 PB7 (io), 25 PA2 (IR) (io), 26 PA3 (io), 27 PA1 (io), 28 PA0 (io), 29 ~{RESET} (in), 30 PD0 (io), 31 PD1 (io), 32 PD2 (io), 33 DAP (power)

## ATtiny28V-1PC
designator U?
8-bit AVR Microcontroller, 1.8-5.5V, 2KB Flash, 11 GPIO pins, 28-pin PDIP, Commercial Grade (0°C to 70°C); Published: 17-Sep-2003; DatasheetVersion: revF, Jul-2006; PackageVersion: revB, Sep-2001; PackageReference: 28P3; Publisher: Altium Limited; PackageDescription: 28-lead (0.300"/7.62mm Wide) Plastic Dual Inline Package (PDIP); Supplier 1: Digi-Key; Supplier Part Number 1: ATTINY28V-1PC-ND; Supplier 2: Mouser; Supplier Part Number 2: 556-ATTINY28V-1PC; ComponentLink1Description: Manufacturer Link; ComponentLink1URL: http://www.atmel.com/products/avr/default.asp?; ComponentLink2Description: ATtiny28L/V Datasheet; ComponentLink2URL: http://www.atmel.com/dyn/resources/prod_documents/doc1062.pdf; ComponentLink3Description: ATtiny28L/V Summary; ComponentLink3URL: http://www.atmel.com/dyn/resources/prod_documents/1062S.pdf; ComponentLink4Description: Atmel.com Home; ComponentLink4URL: http://www.atmel.com
footprint 28P3 (DIP, 28-Leads, Row Spacing 7.62mm, Pitch 2.54mm, Body 34.67x7.3mm)
pins: 1 ~{RESET} (in), 2 PD0 (io), 3 PD1 (io), 4 PD2 (io), 5 PD3 (io), 6 PD4 (io), 7 VCC (power), 8 GND (power), 9 XTAL1 (in), 10 XTAL2 (out), 11 PD5 (io), 12 PD6 (io), 13 PD7 (io), 14 PB0 (AIN0) (io), 15 PB1 (AIN1) (io), 16 PB2 (T0) (io), 17 PB3 (INT0) (io), 18 PB4 (INT1) (io), 19 PB5 (io), 20 VCC (power), 21 NC, 22 GND (power), 23 PB6 (io), 24 PB7 (io), 25 PA2 (IR) (io), 26 PA3 (io), 27 PA1 (io), 28 PA0 (io)

## ATtiny28V-1PI
designator U?
8-bit AVR Microcontroller, 1.8-5.5V, 2KB Flash, 11 GPIO pins, 28-pin PDIP, Industrial Grade (-40°C to 85°C); Published: 17-Sep-2003; DatasheetVersion: revF, Jul-2006; PackageVersion: revB, Sep-2001; PackageReference: 28P3; Publisher: Altium Limited; PackageDescription: 28-lead (0.300"/7.62mm Wide) Plastic Dual Inline Package (PDIP); Supplier 1: Digi-Key; Supplier Part Number 1: ATTINY28V-1PI-ND; Supplier 2: Farnell; Supplier Part Number 2: 4376389; Supplier 3: Mouser; Supplier Part Number 3: 556-ATTINY28V-1PI; ComponentLink1Description: Manufacturer Link; ComponentLink1URL: http://www.atmel.com/products/avr/default.asp?; ComponentLink2Description: ATtiny28L/V Datasheet; ComponentLink2URL: http://www.atmel.com/dyn/resources/prod_documents/doc1062.pdf; ComponentLink3Description: ATtiny28L/V Summary; ComponentLink3URL: http://www.atmel.com/dyn/resources/prod_documents/1062S.pdf; ComponentLink4Description: Atmel.com Home; ComponentLink4URL: http://www.atmel.com
footprint 28P3 (DIP, 28-Leads, Row Spacing 7.62mm, Pitch 2.54mm, Body 34.67x7.3mm)
pins: 1 ~{RESET} (in), 2 PD0 (io), 3 PD1 (io), 4 PD2 (io), 5 PD3 (io), 6 PD4 (io), 7 VCC (power), 8 GND (power), 9 XTAL1 (in), 10 XTAL2 (out), 11 PD5 (io), 12 PD6 (io), 13 PD7 (io), 14 PB0 (AIN0) (io), 15 PB1 (AIN1) (io), 16 PB2 (T0) (io), 17 PB3 (INT0) (io), 18 PB4 (INT1) (io), 19 PB5 (io), 20 VCC (power), 21 NC, 22 GND (power), 23 PB6 (io), 24 PB7 (io), 25 PA2 (IR) (io), 26 PA3 (io), 27 PA1 (io), 28 PA0 (io)

## ATtiny28V-1PU
designator U?
8-bit AVR Microcontroller, 1.8-5.5V, 2KB Flash, 11 GPIO pins, 28-pin PDIP, Industrial Grade (-40°C to 85°C), Pb-Free; Published: 1-Apr-2010; DatasheetVersion: revF, Jul-2006; PackageVersion: revB, Sep-2001; PackageReference: 28P3; Publisher: Altium Limited; PackageDescription: 28-lead (0.300"/7.62mm Wide) Plastic Dual Inline Package (PDIP); Supplier 1: Digi-Key; Supplier Part Number 1: ATTINY28V-1PU-ND; Supplier 2: Mouser; Supplier Part Number 2: 556-ATTINY28V-1PU; ComponentLink1Description: Manufacturer Link; ComponentLink1URL: http://www.atmel.com/products/avr/default.asp?; ComponentLink2Description: ATtiny28L/V Datasheet; ComponentLink2URL: http://www.atmel.com/dyn/resources/prod_documents/doc1062.pdf; ComponentLink3Description: ATtiny28L/V Summary; ComponentLink3URL: http://www.atmel.com/dyn/resources/prod_documents/1062S.pdf; ComponentLink4Description: Atmel.com Home; ComponentLink4URL: http://www.atmel.com
footprint 28P3 (DIP, 28-Leads, Row Spacing 7.62mm, Pitch 2.54mm, Body 34.67x7.3mm)
pins: 1 ~{RESET} (in), 2 PD0 (io), 3 PD1 (io), 4 PD2 (io), 5 PD3 (io), 6 PD4 (io), 7 VCC (power), 8 GND (power), 9 XTAL1 (in), 10 XTAL2 (out), 11 PD5 (io), 12 PD6 (io), 13 PD7 (io), 14 PB0 (AIN0) (io), 15 PB1 (AIN1) (io), 16 PB2 (T0) (io), 17 PB3 (INT0) (io), 18 PB4 (INT1) (io), 19 PB5 (io), 20 VCC (power), 21 NC, 22 GND (power), 23 PB6 (io), 24 PB7 (io), 25 PA2 (IR) (io), 26 PA3 (io), 27 PA1 (io), 28 PA0 (io)

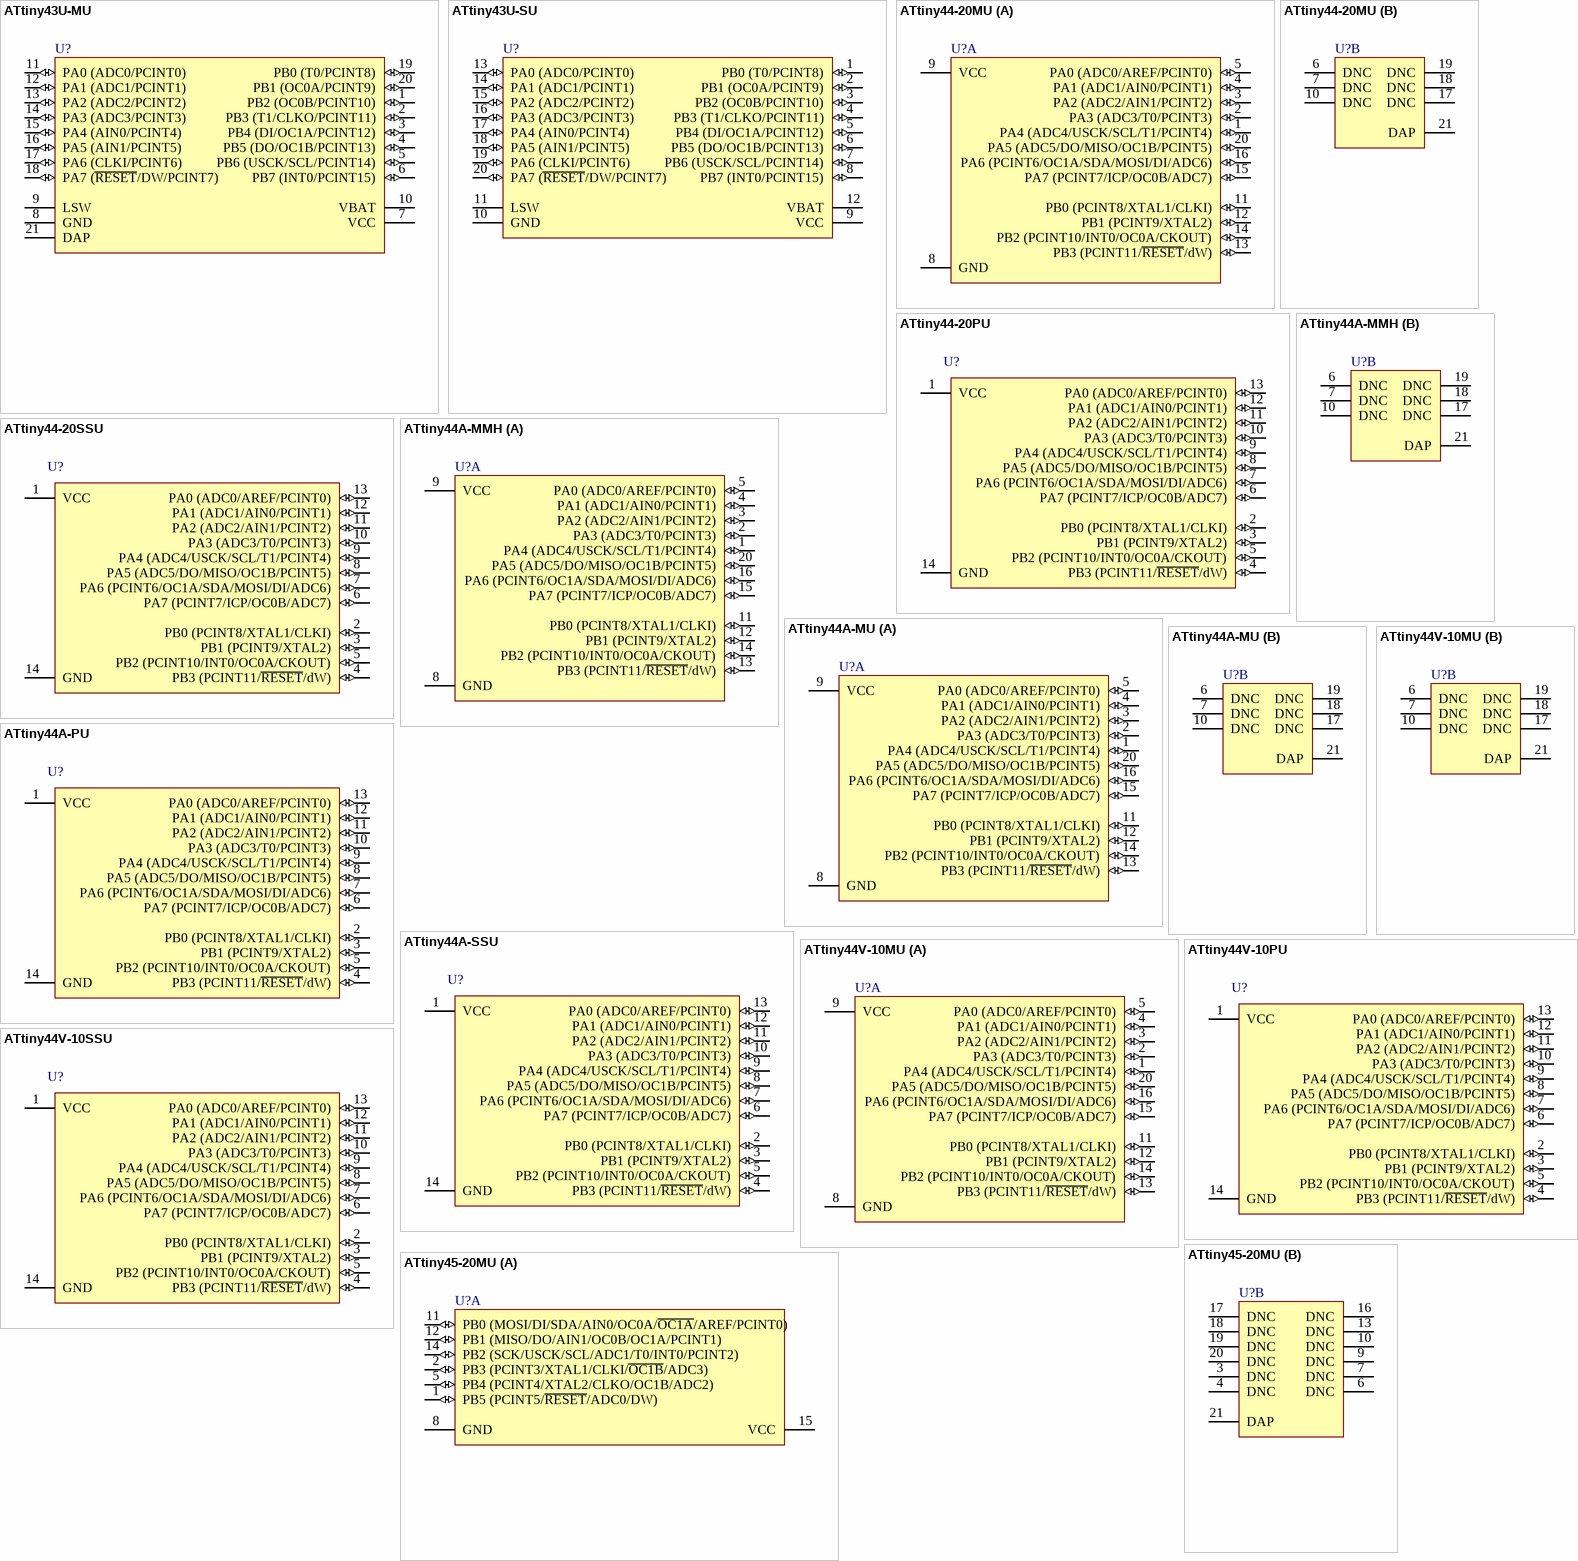
[diagram p7: symbols ATtiny43U-MU to ATtiny45-20MU]

## ATtiny43U-MU
designator U?
8-bit AVR Microcontroller, 1.8-5.5V, 4KB Flash, 64 Bytes EEPROM, 256 Bytes SRAM, 20-pin MLF, Industrial Grade (-40°C to 85°C), Pb-Free; Published: 1-Apr-2010; DatasheetVersion: revB, Mar-2009; PackageVersion: revA, Oct-2004; PackageReference: 20M1; Publisher: Altium Limited; PackageDescription: 20-pad, 4 x 4 x 0.8 mm Body, Lead Pitch 0.50 mm, 2.6 mm Exposed Pad, Micro Lead Frame Package (MLF); Supplier 1: Digi-Key; Supplier Part Number 1: ATTINY43U-MU-ND; Supplier 2: Farnell; Supplier Part Number 2: 1773399; Supplier 3: Mouser; Supplier Part Number 3: 556-ATTINY43U-MU; Code_JEDEC: MO-220WGGD-5; ComponentLink1Description: Manufacturer Link; ComponentLink1URL: http://www.atmel.com/products/avr/default.asp?; ComponentLink2Description: ATtiny43U Datasheet; ComponentLink2URL: http://www.atmel.com/dyn/resources/prod_documents/doc8048.pdf; ComponentLink3Description: ATtiny43U Summary; ComponentLink3URL: http://www.atmel.com/dyn/resources/prod_documents/8048S.pdf; ComponentLink4Description: Atmel.com Home; ComponentLink4URL: http://www.atmel.com
footprint 20M1_N (QFN, 20-Leads, Body 4x4mm, Pitch 0.5mm, IPC Medium Density)
footprint 20M1_L (QFN, 20-Leads, Body 4x4mm, Pitch 0.5mm, IPC High Density)
footprint 20M1_M (QFN, 20-Leads, Body 4x4mm, Pitch 0.5mm, IPC Low Density)
pins: 1 PB2 (OC0B/PCINT10) (io), 2 PB3 (T1/CLKO/PCINT11) (io), 3 PB4 (DI/OC1A/PCINT12) (io), 4 PB5 (DO/OC1B/PCINT13) (io), 5 PB6 (USCK/SCL/PCINT14) (io), 6 PB7 (INT0/PCINT15) (io), 7 VCC (power), 8 GND (power), 9 LSW, 10 VBAT (power), 11 PA0 (ADC0/PCINT0) (io), 12 PA1 (ADC1/PCINT1) (io), 13 PA2 (ADC2/PCINT2) (io), 14 PA3 (ADC3/PCINT3) (io), 15 PA4 (AIN0/PCINT4) (io), 16 PA5 (AIN1/PCINT5) (io), 17 PA6 (CLKI/PCINT6) (io), 18 PA7 (~{RESET}/DW/PCINT7) (io), 19 PB0 (T0/PCINT8) (io), 20 PB1 (OC0A/PCINT9) (io), 21 DAP

## ATtiny43U-SU
designator U?
8-bit AVR Microcontroller, 1.8-5.5V, 4KB Flash, 64 Bytes EEPROM, 256 Bytes SRAM, 20-pin SOIC, Industrial Grade (-40°C to 85°C), Pb-Free; Published: 1-Apr-2010; DatasheetVersion: revB, Mar-2009; PackageVersion: revB, Nov-2006; PackageReference: 20S2; Publisher: Altium Limited; PackageDescription: 20-lead, 0.300" Wide Body, Plastic Gull Wing Small Outline Package (SOIC); Supplier 1: Digi-Key; Supplier Part Number 1: ATTINY43U-SU-ND; Supplier 2: Mouser; Supplier Part Number 2: 556-ATTINY43U-SU; Code_JEDEC: MS-013-AC; Code_IPC: SOIC127P1030-20; ComponentLink1Description: Manufacturer Link; ComponentLink1URL: http://www.atmel.com/products/avr/default.asp?; ComponentLink2Description: ATtiny43U Datasheet; ComponentLink2URL: http://www.atmel.com/dyn/resources/prod_documents/doc8048.pdf; ComponentLink3Description: ATtiny43U Summary; ComponentLink3URL: http://www.atmel.com/dyn/resources/prod_documents/8048S.pdf; ComponentLink4Description: Atmel.com Home; ComponentLink4URL: http://www.atmel.com
footprint 20S2_N (SOIC, 20-Leads, Body 12.8x7.5mm, Pitch 1.27mm, IPC Medium Density)
footprint 20S2_L (SOIC, 20-Leads, Body 12.8x7.5mm, Pitch 1.27mm, IPC High Density)
footprint 20S2_M (SOIC, 20-Leads, Body 12.8x7.5mm, Pitch 1.27mm, IPC Low Density)
pins: 1 PB0 (T0/PCINT8) (io), 2 PB1 (OC0A/PCINT9) (io), 3 PB2 (OC0B/PCINT10) (io), 4 PB3 (T1/CLKO/PCINT11) (io), 5 PB4 (DI/OC1A/PCINT12) (io), 6 PB5 (DO/OC1B/PCINT13) (io), 7 PB6 (USCK/SCL/PCINT14) (io), 8 PB7 (INT0/PCINT15) (io), 9 VCC (power), 10 GND (power), 11 LSW, 12 VBAT (power), 13 PA0 (ADC0/PCINT0) (io), 14 PA1 (ADC1/PCINT1) (io), 15 PA2 (ADC2/PCINT2) (io), 16 PA3 (ADC3/PCINT3) (io), 17 PA4 (AIN0/PCINT4) (io), 18 PA5 (AIN1/PCINT5) (io), 19 PA6 (CLKI/PCINT6) (io), 20 PA7 (~{RESET}/DW/PCINT7) (io)

## ATtiny44-20MU
designator U?
8-bit AVR Microcontroller, 2.7-5.5V, 4KB Flash, 256 Bytes EEPROM, 256 Bytes SRAM, 20-pin MLF, Industrial Grade (-40°C to 85°C), Pb-Free; ComponentAvailability: Not recommended for new design.; Published: 1-Apr-2010; DatasheetVersion: revH, Oct-2009; PackageVersion: revA, Oct-2004; PackageReference: 20M1; Publisher: Altium Limited; PackageDescription: 20-pad, 4 x 4 x 0.8 mm Body, Lead Pitch 0.50 mm, 2.6 mm Exposed Pad, Micro Lead Frame Package (MLF); Supplier 1: Digi-Key; Supplier Part Number 1: ATTINY44-20MU-ND; Supplier 2: Mouser; Supplier Part Number 2: 556-ATTINY44-20MU; Code_JEDEC: MO-220WGGD-5; ComponentLink1Description: Manufacturer Link; ComponentLink1URL: http://www.atmel.com/products/avr/default.asp?; ComponentLink2Description: ATtiny24/44/84 Datasheet; ComponentLink2URL: http://www.atmel.com/dyn/resources/prod_documents/doc8006.pdf; ComponentLink3Description: ATtiny24/44/84 Summary; ComponentLink3URL: http://www.atmel.com/dyn/resources/prod_documents/8006S.pdf; ComponentLink4Description: Atmel.com Home; ComponentLink4URL: http://www.atmel.com
footprint 20M1_N (QFN, 20-Leads, Body 4x4mm, Pitch 0.5mm, IPC Medium Density)
footprint 20M1_L (QFN, 20-Leads, Body 4x4mm, Pitch 0.5mm, IPC High Density)
footprint 20M1_M (QFN, 20-Leads, Body 4x4mm, Pitch 0.5mm, IPC Low Density)
part A pins: 1 PA4 (ADC4/USCK/SCL/T1/PCINT4) (io), 2 PA3 (ADC3/T0/PCINT3) (io), 3 PA2 (ADC2/AIN1/PCINT2) (io), 4 PA1 (ADC1/AIN0/PCINT1) (io), 5 PA0 (ADC0/AREF/PCINT0) (io), 8 GND (power), 9 VCC (power), 11 PB0 (PCINT8/XTAL1/CLKI) (io), 12 PB1 (PCINT9/XTAL2) (io), 13 PB3 (PCINT11/~{RESET}/dW) (io), 14 PB2 (PCINT10/INT0/OC0A/CKOUT) (io), 15 PA7 (PCINT7/ICP/OC0B/ADC7) (io), 16 PA6 (PCINT6/OC1A/SDA/MOSI/DI/ADC6) (io), 20 PA5 (ADC5/DO/MISO/OC1B/PCINT5) (io)
part B pins: 6 DNC, 7 DNC, 10 DNC, 17 DNC, 18 DNC, 19 DNC, 21 DAP (power)

## ATtiny44-20PU
designator U?
8-bit AVR Microcontroller, 2.7-5.5V, 4KB Flash, 256 Bytes EEPROM, 256 Bytes SRAM, 14-pin PDIP, Industrial Grade (-40°C to 85°C), Pb-Free; ComponentAvailability: Not recommended for new design.; Published: 1-Apr-2010; DatasheetVersion: revH, Oct-2009; PackageVersion: revA, Nov-2005; PackageReference: 14P3; Publisher: Altium Limited; PackageDescription: 14-Lead Plastic Dual In-Line, 300 mil/7.62 mm Wide Body (PDIP); Supplier 1: Digi-Key; Supplier Part Number 1: ATTINY44-20PU-ND; Supplier 2: Farnell; Supplier Part Number 2: 1455150; Supplier 3: Mouser; Supplier Part Number 3: 556-ATTINY44-20PU; Code_JEDEC: MS-001-AA; ComponentLink1Description: Manufacturer Link; ComponentLink1URL: http://www.atmel.com/products/avr/default.asp?; ComponentLink2Description: ATtiny24/44/84 Datasheet; ComponentLink2URL: http://www.atmel.com/dyn/resources/prod_documents/doc8006.pdf; ComponentLink3Description: ATtiny24/44/84 Summary; ComponentLink3URL: http://www.atmel.com/dyn/resources/prod_documents/8006S.pdf; ComponentLink4Description: Atmel.com Home; ComponentLink4URL: http://www.atmel.com
footprint 14P3 (DIP, 14-Leads, Row Spacing 7.62mm, Pitch 2.54mm, Body 19.2x6.6mm)
pins: 1 VCC (power), 2 PB0 (PCINT8/XTAL1/CLKI) (io), 3 PB1 (PCINT9/XTAL2) (io), 4 PB3 (PCINT11/~{RESET}/dW) (io), 5 PB2 (PCINT10/INT0/OC0A/CKOUT) (io), 6 PA7 (PCINT7/ICP/OC0B/ADC7) (io), 7 PA6 (PCINT6/OC1A/SDA/MOSI/DI/ADC6) (io), 8 PA5 (ADC5/DO/MISO/OC1B/PCINT5) (io), 9 PA4 (ADC4/USCK/SCL/T1/PCINT4) (io), 10 PA3 (ADC3/T0/PCINT3) (io), 11 PA2 (ADC2/AIN1/PCINT2) (io), 12 PA1 (ADC1/AIN0/PCINT1) (io), 13 PA0 (ADC0/AREF/PCINT0) (io), 14 GND (power)

## ATtiny44-20SSU
designator U?
8-bit AVR Microcontroller, 2.7-5.5V, 4KB Flash, 256 Bytes EEPROM, 256 Bytes SRAM, 14-pin SOIC, Industrial Grade (-40°C to 85°C), Pb-Free; ComponentAvailability: Not recommended for new design.; Published: 1-Apr-2010; DatasheetVersion: revH, Oct-2009; PackageVersion: revA, Feb-2002; PackageReference: 14S1; Publisher: Altium Limited; PackageDescription: 14-Lead, 0.150” Wide Body, Plastic Gull Wing Small Outline Package (SOIC); Supplier 1: Digi-Key; Supplier Part Number 1: ATTINY44-20SSU-ND; Supplier 2: Farnell; Supplier Part Number 2: 1455152; Supplier 3: Mouser; Supplier Part Number 3: 556-ATTINY44-20SSU; Code_JEDEC: MS-012-AB; Code_IPC: SOIC127P600-14; ComponentLink1Description: Manufacturer Link; ComponentLink1URL: http://www.atmel.com/products/avr/default.asp?; ComponentLink2Description: ATtiny24/44/84 Datasheet; ComponentLink2URL: http://www.atmel.com/dyn/resources/prod_documents/doc8006.pdf; ComponentLink3Description: ATtiny24/44/84 Summary; ComponentLink3URL: http://www.atmel.com/dyn/resources/prod_documents/8006S.pdf; ComponentLink4Description: Atmel.com Home; ComponentLink4URL: http://www.atmel.com
footprint 14S1_N (SOIC, 14-Leads, Body 8.7x3.9mm, Pitch 1.27mm, IPC Medium Density)
footprint 14S1_L (SOIC, 14-Leads, Body 8.7x3.9mm, Pitch 1.27mm, IPC High Density)
footprint 14S1_M (SOIC, 14-Leads, Body 8.7x3.9mm, Pitch 1.27mm, IPC Low Density)
pins: 1 VCC (power), 2 PB0 (PCINT8/XTAL1/CLKI) (io), 3 PB1 (PCINT9/XTAL2) (io), 4 PB3 (PCINT11/~{RESET}/dW) (io), 5 PB2 (PCINT10/INT0/OC0A/CKOUT) (io), 6 PA7 (PCINT7/ICP/OC0B/ADC7) (io), 7 PA6 (PCINT6/OC1A/SDA/MOSI/DI/ADC6) (io), 8 PA5 (ADC5/DO/MISO/OC1B/PCINT5) (io), 9 PA4 (ADC4/USCK/SCL/T1/PCINT4) (io), 10 PA3 (ADC3/T0/PCINT3) (io), 11 PA2 (ADC2/AIN1/PCINT2) (io), 12 PA1 (ADC1/AIN0/PCINT1) (io), 13 PA0 (ADC0/AREF/PCINT0) (io), 14 GND (power)

## ATtiny44A-MMH
designator U?
8-bit AVR Microcontroller, 1.8-5.5V, 4KB Flash, 256 Bytes EEPROM, 256 Bytes SRAM, 20-pin VQFN, Industrial Grade (-40°C to 85°C), Pb-Free; Published: 1-Apr-2010; DatasheetVersion: revA, Dec-2008; PackageVersion: revB, Oct-2008; PackageReference: 20M2; Publisher: Altium Limited; PackageDescription: 20-pad, 3x3x0.85mm Body, Pitch 0.45mm, 1.55x1.55mm Exposed Pad, Plastic Very Thin QFN Package (VQFN); Supplier 1: Digi-Key; Supplier Part Number 1: ATTINY44A-MMH-ND; Supplier 2: Farnell; Supplier Part Number 2: 1748544; Supplier 3: Mouser; Supplier Part Number 3: 556-ATTINY44A-MMH; ComponentLink1Description: Manufacturer Link; ComponentLink1URL: http://www.atmel.com/products/avr/default.asp?; ComponentLink2Description: ATtiny24A/44A Datasheet; ComponentLink2URL: http://www.atmel.com/dyn/resources/prod_documents/doc8183.pdf; ComponentLink3Description: ATtiny24A/44A Summary; ComponentLink3URL: http://www.atmel.com/dyn/resources/prod_documents/8183S.pdf; ComponentLink4Description: Atmel.com Home; ComponentLink4URL: http://www.atmel.com
footprint 20M2_N (QFN, 20-Leads, Body 3x3mm, Pitch 0.45mm, IPC Medium Density)
footprint 20M2_L (QFN, 20-Leads, Body 3x3mm, Pitch 0.45mm, IPC High Density)
footprint 20M2_M (QFN, 20-Leads, Body 3x3mm, Pitch 0.45mm, IPC Low Density)
part A pins: 1 PA4 (ADC4/USCK/SCL/T1/PCINT4) (io), 2 PA3 (ADC3/T0/PCINT3) (io), 3 PA2 (ADC2/AIN1/PCINT2) (io), 4 PA1 (ADC1/AIN0/PCINT1) (io), 5 PA0 (ADC0/AREF/PCINT0) (io), 8 GND (power), 9 VCC (power), 11 PB0 (PCINT8/XTAL1/CLKI) (io), 12 PB1 (PCINT9/XTAL2) (io), 13 PB3 (PCINT11/~{RESET}/dW) (io), 14 PB2 (PCINT10/INT0/OC0A/CKOUT) (io), 15 PA7 (PCINT7/ICP/OC0B/ADC7) (io), 16 PA6 (PCINT6/OC1A/SDA/MOSI/DI/ADC6) (io), 20 PA5 (ADC5/DO/MISO/OC1B/PCINT5) (io)
part B pins: 6 DNC, 7 DNC, 10 DNC, 17 DNC, 18 DNC, 19 DNC, 21 DAP (power)